# Altium schematic symbol library Diodes-Inc-FET.SchLib: 10 symbols
Pins are listed as number, name and electrical type; pins without a type are passive.

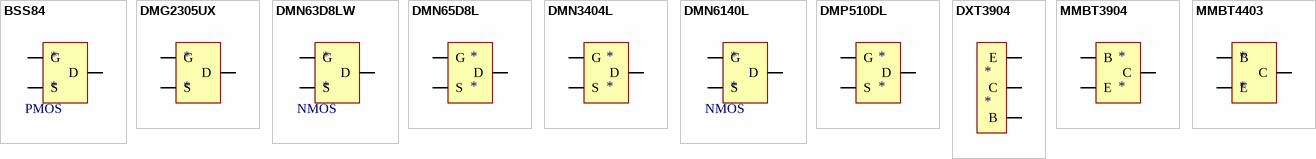
[diagram p0: symbols BSS84 to MMBT4403]

## BSS84
designator *
P-MOSFET SOT-23
footprint BSS84 (SOT-23)
pins: 1 G, 2 S, 3 D
text: PMOS

## DMG2305UX
designator *
P-MOSFET
footprint SOT105P240X110-3N (SOT23, 3-Leads, Body 2.90x2.40mm, Pitch 1.05mm, IPC Medium Density)
pins: 1 G, 2 S, 3 D

## DMN63D8LW
designator *
N-MOSFET SOT-323
footprint DMN63D8LW (N-MOSFET SOT-323)
pins: 1 G, 2 S, 3 D
text: NMOS

## DMN65D8L
designator *
N-MOSFET
footprint SOT105P240X110-3N (SOT23, 3-Leads, Body 2.90x2.40mm, Pitch 1.05mm, IPC Medium Density)
pins: 1 G, 2 S, 3 D

## DMN3404L
designator *
N-MOSFET
footprint SOT105P240X110-3N (SOT23, 3-Leads, Body 2.90x2.40mm, Pitch 1.05mm, IPC Medium Density)
pins: 1 G, 2 S, 3 D

## DMN6140L
designator *
N-MOSFET SOT-23
footprint DMN6140L (SOT-23)
pins: 1 G, 2 S, 3 D
text: NMOS

## DMP510DL
designator *
P-MOSFET
footprint SOT105P240X110-3N (SOT23, 3-Leads, Body 2.90x2.40mm, Pitch 1.05mm, IPC Medium Density)
pins: 1 G, 2 S, 3 D

## DXT3904
designator *
NPN
footprint SOT89-Diodes-inc (SOT89, 3-Leads, Body 4.50x2.45mm, Pitch 1.50mm, Lead Span 4.1mm, IPC Medium Density)
pins: b B, c C, e E

## MMBT3904
designator *
NPN SOT-23
footprint MMBT3904 (SOT-23)
pins: 1 B, 2 E, 3 C

## MMBT4403
designator *
PNP
footprint MMBT4403 (SOT23, 3-Leads, Body 2.90x2.40mm, Pitch 0.90mm, IPC Medium Density)
pins: 1 B, 2 E, 3 C